# EAGLE library part OSTOQ0854*1 (library Volks73-OnShoreTechnology)
8-Pole Terminal Block Right Angle Header 0.200" (5.08mm) Pitch Documentation Drawing <http://www.on-shore.com/sites/default/files/manuals/ostoqxx5451.pdf>
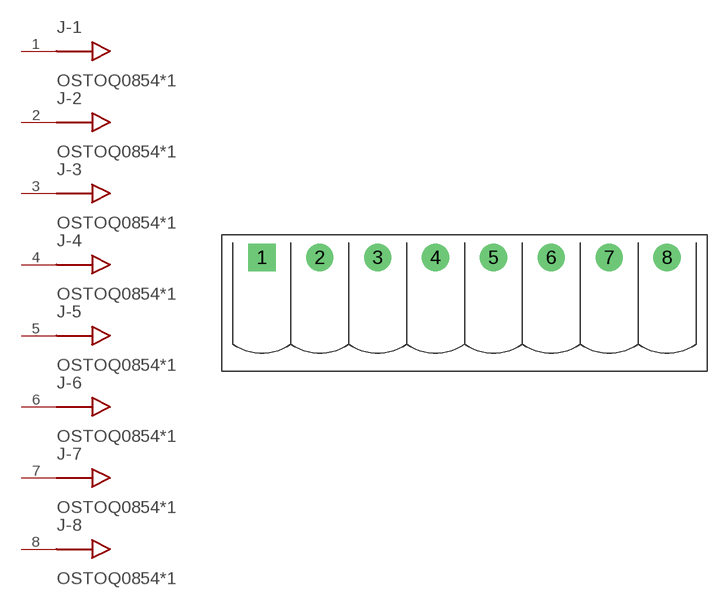
[diagram p0: symbol with the pads of 0854; footprint 0854]

Designator prefix J; gates -1=MALE_CONNECTOR -2=MALE_CONNECTOR -3=MALE_CONNECTOR -4=MALE_CONNECTOR -5=MALE_CONNECTOR -6=MALE_CONNECTOR -7=MALE_CONNECTOR -8=MALE_CONNECTOR

## OSTOQ085451 (CATEGORY: Connectors, Interconnects; COLOR: Green; CURRENT: 20A; DESCRIPTION: TERM BLOCK HDR 8POS R/A 5.08MM; FAMILY: Terminal Blocks - Headers, Plugs and Sockets; FEATURES: -; HEADER_ORIENTATION: 90°, Right Angle; MANUFACTURER: On Shore Technology Inc; MOUNTING_TYPE: Through Hole; NUMBER_OF_LEVELS: 1; NUMBER_OF_POSITIONS: 8; PART_NUMBER: OSTOQ085451; PITCH: 0.200" (5.08mm); PLUG_WIRE_ENTRY: -; POSITIONS_PER_LEVEL: 8; SERIES: OSTOQ; SUPPLIER_ITEM_LINK: <a href="http://www.digikey.com/product-detail/en/OSTOQ085451/ED2834-ND/1588287">Details</a>; SUPPLIER_ITEM_NUMBER: ED2834-ND; SUPPLIER_ITEM_URL: http://www.digikey.com/product-detail/en/OSTOQ085451/ED2834-ND/1588287; SUPPLIER_LINK: <a href="http://www.digikey.com">Home Page</a>; SUPPLIER_NAME: Digi-Key; SUPPLIER_URL: http://www.digikey.com; TERMINAL_BLOCK_TYPE: Header, Male Pins, Shrouded (4 Side); TERMINATION: Solder; VOLTAGE: 300V; WIRE_GAUGE: -)  [0854]
1  -1:P$1
2  -2:P$1
3  -3:P$1
4  -4:P$1
5  -5:P$1
6  -6:P$1
7  -7:P$1
8  -8:P$1

## Footprint 0854 (pad centres in mm)
8-Pole Therminal Block, Right Angle Header "08" Size Code for OSTOQ Series, 0.200" (5.08mm) Pitch
drill 1.6 square: 1 -17.78,0
drill 1.6: 2 -12.7,0; 3 -7.62,0; 4 -2.54,0; 5 2.54,0; 6 7.62,0; 7 12.7,0; 8 17.78,0